# Altium footprint library DIP792W45P254L1904H533Q16.PcbLib: 1 footprints
Each footprint in its own frame and in the unit in brackets; x right, y up, seen from the top. Pads: shape width x height; smd on the part's side, far side on the other; paste and mask are expansions set on the pad; w line width, h text height; cw(c..) or ccw(c..) is an arc to the next point about the centre after c.
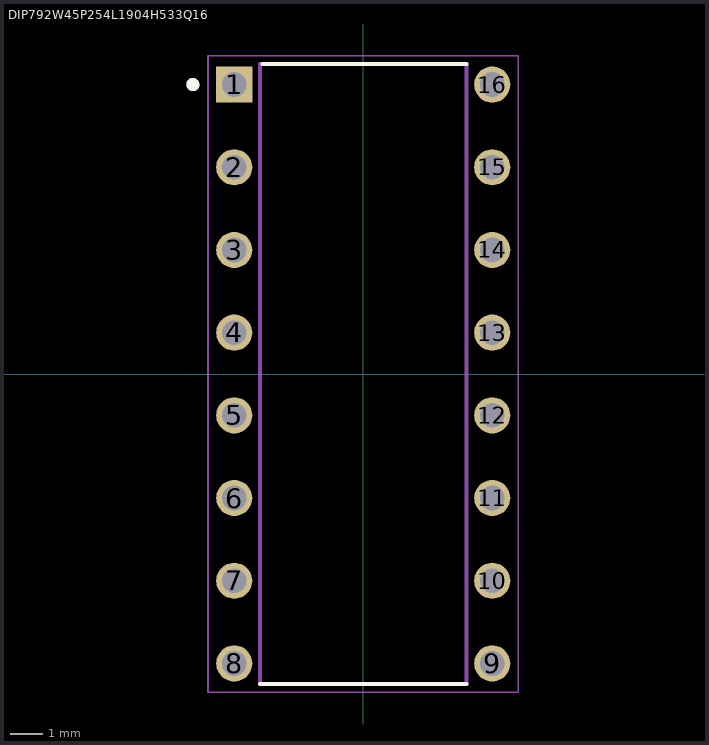
[diagram p0: the footprint, top view; thin cyan lines are the x and y axes]

## DIP792W45P254L1904H533Q16 [mm]
height 5.334
pads (16):
  rect 1.11x1.11 / inner round 1.11 / far side rect 1.11x1.11 hole 0.76: 1(-3.962,8.89)
  round 1.11 hole 0.76: 2(-3.962,6.35) 3(-3.962,3.81) 4(-3.962,1.27) 5(-3.962,-1.27) 6(-3.962,-3.81) 7(-3.962,-6.35) 8(-3.962,-8.89) 9(3.962,-8.89) 10(3.962,-6.35) 11(3.962,-3.81) 12(3.962,-1.27) 13(3.962,1.27) 14(3.962,3.81) 15(3.962,6.35) 16(3.962,8.89)
Top Overlay:
  circle w0.2: c-5.232,8.89 r0.1
  lines w0.127: -3.175,-9.523 3.175,-9.523 ; -3.087,9.523 3.175,9.523
Mechanical 13:
  circle w0.2: c-5.232,8.89 r0.1
  lines w0.127: -3.175,-9.523 3.175,-9.523 3.175,9.523 -3.175,9.523 -3.175,-9.523
Mechanical 15:
  lines w0.05: -4.768,-9.774 -4.768,9.774 4.768,9.774 4.768,-9.774 -4.768,-9.774